# Altium footprint library General.PcbLib: 18 footprints (part 2 of 2)
Each footprint in its own frame and in the unit in brackets; x right, y up, seen from the top. Pads: shape width x height; smd on the part's side, far side on the other; paste and mask are expansions set on the pad; w line width, h text height; cw(c..) or ccw(c..) is an arc to the next point about the centre after c.
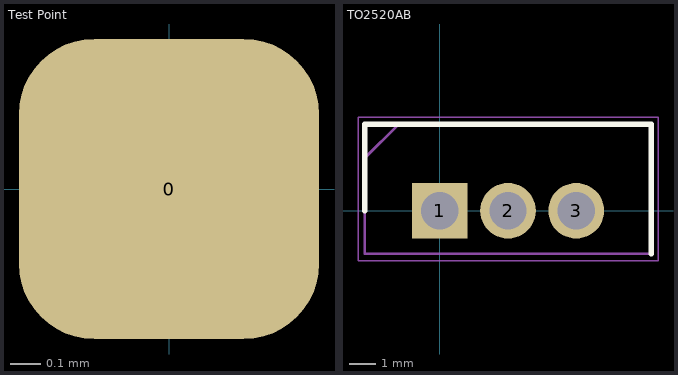
[diagram p1: the footprints below, top view; thin cyan lines are the x and y axes]

## Test Point [mm] "Test Point"
pads (1):
  rrect50% 1x1 smd: 0(0,0)

## TO2520AB [mm]
height 16.51
pads (3):
  rect 2.07x2.07 hole 1.38: 1(0,0)
  round 2.07 hole 1.38: 2(2.54,0) 3(5.08,0)
Top Overlay:
  lines w0.2: -2.795,0 -2.795,3.225 7.875,3.225 7.875,-1.605
Mechanical 13:
  lines w0.1: -2.795,1.955 -1.525,3.225 ; -2.795,-1.605 7.875,-1.605 7.875,3.225 -2.795,3.225 -2.795,-1.605
Mechanical 15:
  lines w0.05: -3.045,-1.855 8.125,-1.855 8.125,3.475 -3.045,3.475 -3.045,-1.855
3D body "IRF2807PBF.stp": height 18.86, standoff -17.4, extent -2.54,-1.605 7.62,3.225